# EAGLE library part ROBOMD2 (library robobus)
ROBOMD2 Connector for exhernal dual channel brushed motor driver.
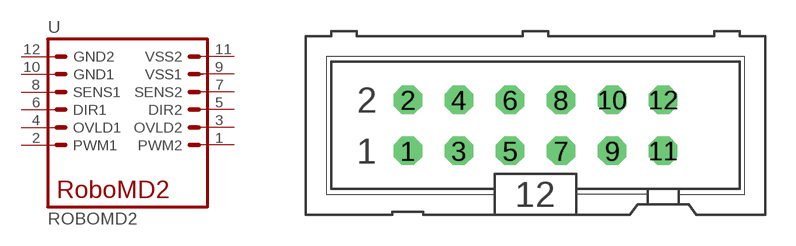
[diagram p2: symbol with the pads of ML12; footprint ML12]

Designator prefix -

## ROBOMD2  [ML12]
1  PWM2  pas
2  PWM1  pas
3  OVLD2  pas
4  OVLD1  pas
5  DIR2  pas
6  DIR1  pas
7  SENS2  pas
8  SENS1  pas
9  VSS1  pas
10  GND1  pas
11  VSS2  pas
12  GND2  pas

## Footprint ML12 (pad centres in mm)
drill 0.914 octagon: 1 -6.35,-1.27; 2 -6.35,1.27; 3 -3.81,-1.27; 4 -3.81,1.27; 5 -1.27,-1.27; 6 -1.27,1.27; 7 1.27,-1.27; 8 1.27,1.27; 9 3.81,-1.27; 10 3.81,1.27; 11 6.35,-1.27; 12 6.35,1.27